# Altium footprint library DSC60XX.PcbLib: 4 footprints
Each footprint in its own frame and in the unit in brackets; x right, y up, seen from the top. Pads: shape width x height; smd on the part's side, far side on the other; paste and mask are expansions set on the pad; w line width, h text height; cw(c..) or ccw(c..) is an arc to the next point about the centre after c.
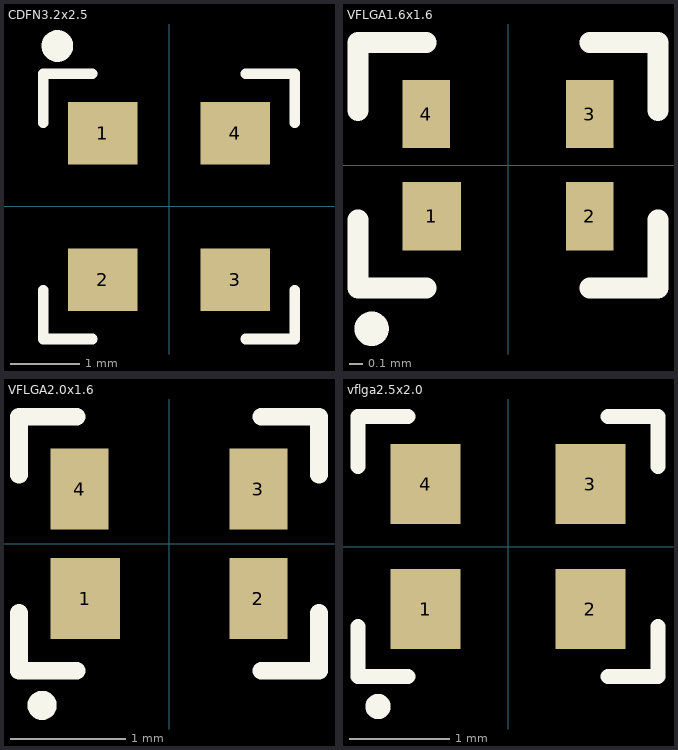
[diagram p0: the footprints below, top view; thin cyan lines are the x and y axes]

## CDFN3.2x2.5 [mm]
pads (4):
  rect 1x0.9 smd: 1(-0.95,1.05) 2(-0.95,-1.05) 3(0.95,-1.05) 4(0.95,1.05)
Top Overlay:
  circle w0.254: c-1.6,2.3 r0.1
  lines w0.152: -1.8,-1.2 -1.8,-1.8 -1.8,-1.9 -1.1,-1.9 ; -1.8,1.2 -1.8,1.9 -1.7,1.9 -1.1,1.9 ; 1.1,-1.9 1.7,-1.9 1.8,-1.9 1.8,-1.2 ; 1.1,1.9 1.8,1.9 1.8,1.8 1.8,1.2
3D body: height 0.9, standoff 0, extent -1.25,-1.6 1.25,1.6

## VFLGA1.6x1.6 [mm]
pads (4):
  rect 0.43x0.5 smd: 1(-0.56,-0.375)
  rect 0.35x0.5 smd: 2(0.6,-0.375) 3(0.6,0.375) 4(-0.6,0.375)
Top Overlay:
  circle w0.152: c-1,-1.2 r0.05
  lines w0.152: -1.1,-0.4 -1.1,-0.8 -1.1,-0.9 -0.6,-0.9 ; -1.1,0.4 -1.1,0.9 -1,0.9 -0.6,0.9 ; 0.6,-0.9 1,-0.9 1.1,-0.9 1.1,-0.4 ; 0.6,0.9 1.1,0.9 1.1,0.8 1.1,0.4
3D body: height 0.89, standoff 0, extent -0.8,-0.6 0.8,0.6
3D body: height 1.04, standoff 0, extent 0.508,-0.381 0.508,-0.381

## VFLGA2.0x1.6 [mm]
pads (4):
  rect 0.6x0.7 smd: 1(-0.725,-0.475)
  rect 0.5x0.7 smd: 2(0.775,-0.475) 3(0.775,0.475) 4(-0.775,0.475)
Top Overlay:
  circle w0.152: c-1.1,-1.4 r0.05
  lines w0.152: -1.3,-0.6 -1.3,-1.1 -0.8,-1.1 ; -1.3,0.6 -1.3,1.1 -0.8,1.1 ; 0.8,-1.1 1.3,-1.1 1.3,-0.6 ; 0.8,1.1 1.3,1.1 1.3,0.6
3D body: height 0.89, standoff 0, extent -1,-0.8 1,0.8

## vflga2.5x2.0 [mm]
pads (4):
  rect 0.7x0.8 smd: 1(-0.825,-0.625) 2(0.825,-0.625) 3(0.825,0.625) 4(-0.825,0.625)
Top Overlay:
  circle w0.152: c-1.3,-1.6 r0.05
  lines w0.152: -1.5,-0.8 -1.5,-1.2 -1.5,-1.3 -1,-1.3 ; -1.5,0.8 -1.5,1.3 -1.4,1.3 -1,1.3 ; 1,-1.3 1.4,-1.3 1.5,-1.3 1.5,-0.8 ; 1,1.3 1.5,1.3 1.5,1.2 1.5,0.8
3D body: height 0.89, standoff 0, extent -1.25,-1 1.25,1